# Altium schematic symbol library Panasonic.SchLib: 9 symbols
Pins are listed as number, name and electrical type; pins without a type are passive.

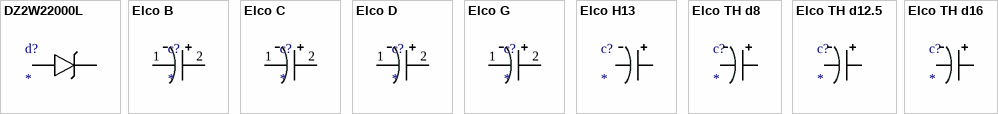
[diagram p0: symbols DZ2W22000L to Elco TH d16]

## DZ2W22000L
designator d?
Zener diode
footprint Mini2-F3-B
pins: 1 Kathode, 2 Anode

## Elco B
designator c?
footprint Elco-B (SMD Electrolytic Capacitor-Size B-Pitch 1mm-4.3mm x 5.4mm)
pins: 1 "Negative Pin", 2 "Negative Pin"

## Elco C
designator c?
footprint Elco-C (SMD Electrolytic Capacitor-Size B-Pitch 1mm-5.3mm x 5.4mm)
pins: 1 "Negative Pin", 2 "Negative Pin"

## Elco D
designator c?
Elco size D 6.3x5.4
footprint Elco-D (SMD Electrolytic Capacitor-Size D-Pitch 1.8mm-6.3mm x 5.4mm)
pins: 1 "Negative Pin", 2 "Negative Pin"

## Elco G
designator c?
footprint Elco-C (SMD Electrolytic Capacitor-Size B-Pitch 1mm-5.3mm x 5.4mm)
pins: 1 "Negative Pin", 2 "Negative Pin"

## Elco H13
designator c?
footprint Elco-H
pins: 1 "Negative Pin", 2 "Positive Pin"

## Elco TH d8
designator c?
d = 8mm
footprint TH ELCO 8
pins: 1 "Negative Pin", 2 "Positive Pin"

## Elco TH d12.5
designator c?
d = 12.5mm
footprint TH Elco 12.5 (D=12.5mm)
pins: 1 "Negative Pin", 2 "Positive Pin"

## Elco TH d16
designator c?
d = 16mm
footprint TH Elco 16 (D=16mm)
pins: 1 "Negative Pin", 2 "Positive Pin"